# Altium footprint library HabLib.PcbLib: 72 footprints (part 3 of 5)
Each footprint in its own frame and in the unit in brackets; x right, y up, seen from the top. Pads: shape width x height; smd on the part's side, far side on the other; paste and mask are expansions set on the pad; w line width, h text height; cw(c..) or ccw(c..) is an arc to the next point about the centre after c.
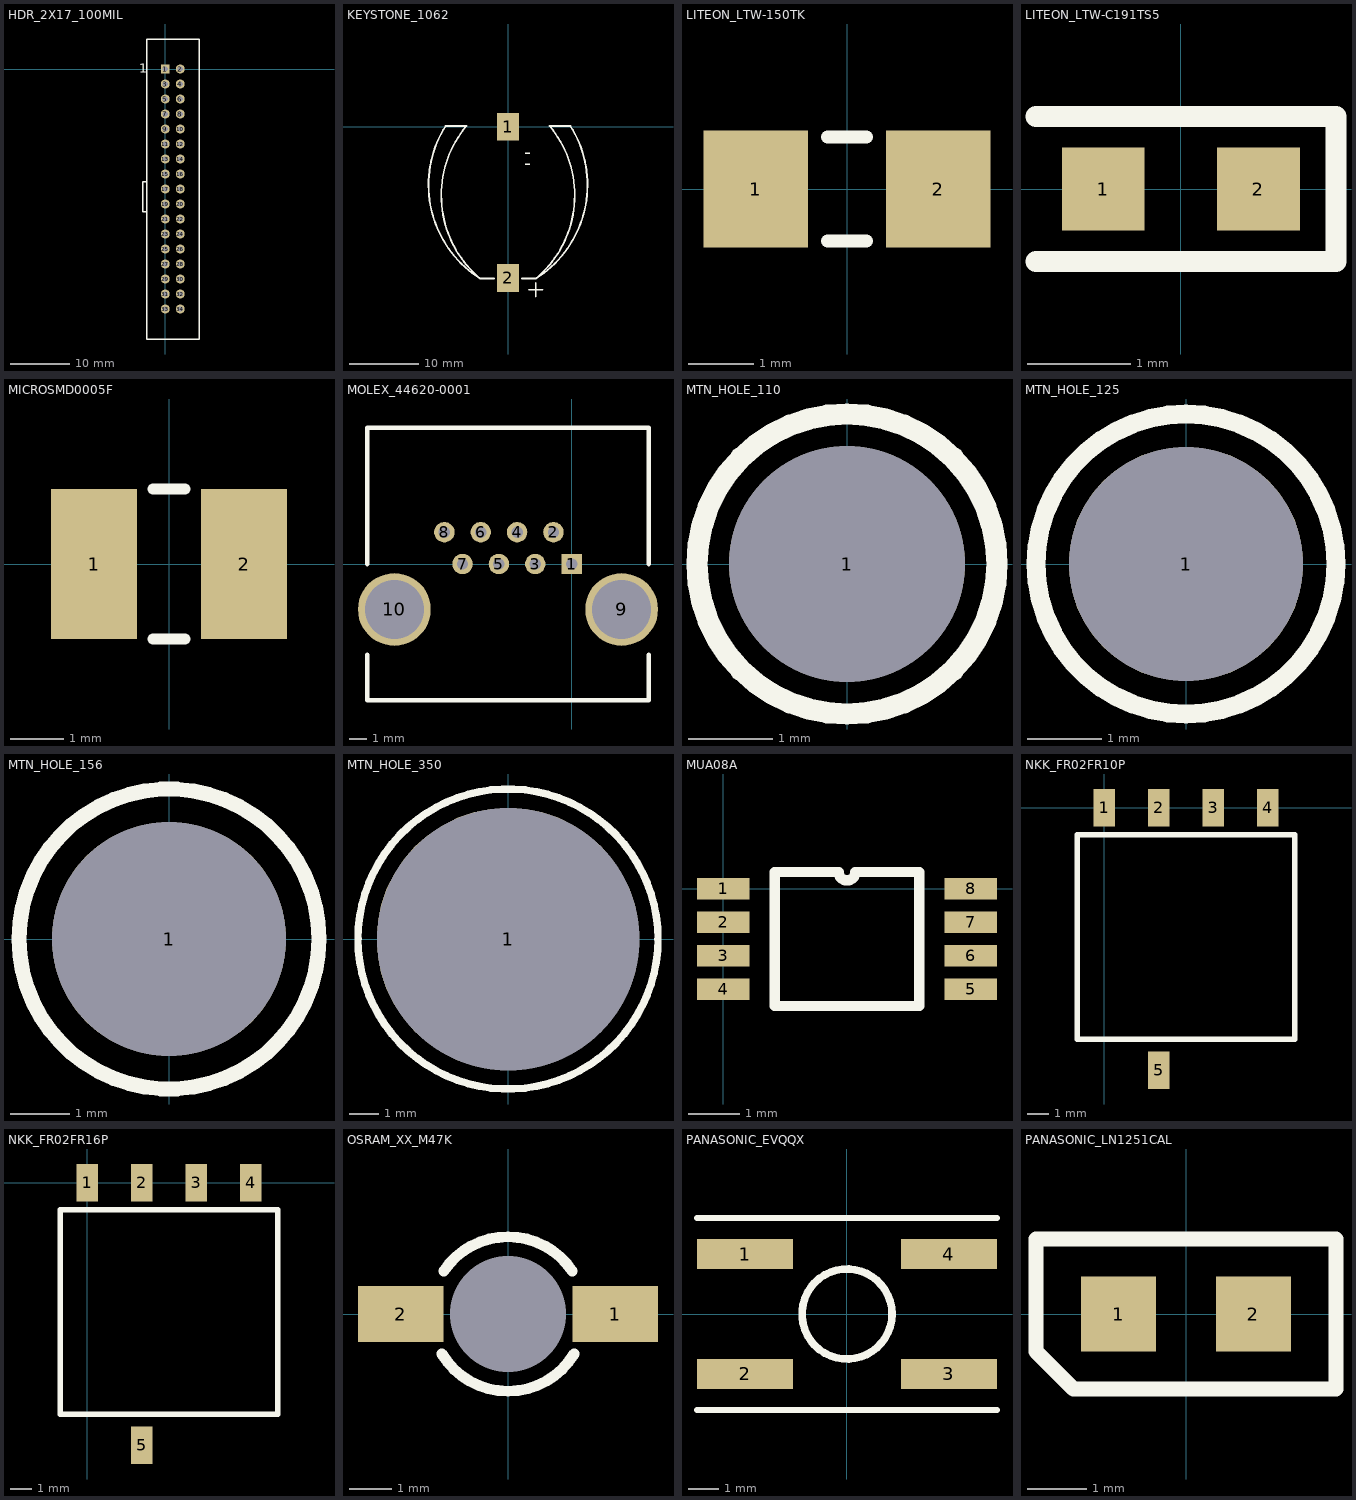
[diagram p2: the footprints below, top view; thin cyan lines are the x and y axes]

## HDR_2X17_100MIL [mil] "HEADER, 2X17, 100MIL SPACING, TH"
height 350
pads (34):
  rect 60x60 hole 35: 1(0,0)
  round 60 hole 35: 2(100,0) 3(0,-100) 4(100,-100) 5(0,-200) 6(100,-200) 7(0,-300) 8(100,-300) 9(0,-400) 10(100,-400) 11(0,-500) 12(100,-500) 13(0,-600) 14(100,-600) 15(0,-700) 16(100,-700) 17(0,-800) 18(100,-800) 19(0,-900) 20(100,-900) 21(0,-1000) 22(100,-1000) 23(0,-1100) 24(100,-1100) 25(0,-1200) 26(100,-1200) 27(0,-1300) 28(100,-1300) 29(0,-1400) 30(100,-1400) 31(0,-1500) 32(100,-1500) 33(0,-1600) 34(100,-1600)
Top Overlay:
  lines w10: -125,-950 -150,-950 -150,-750 -125,-750 ; -125,-1800 225,-1800 225,200 -125,200 -125,-1800
  text "1" at -175,-25 h60
3D body: height 1, standoff 0, extent -125,-1800 227.5,200
3D body: height 350, standoff 0, extent -125,-1800 225,200
3D body: height 325, standoff 0, extent -14.94,-14.97 14.94,14.97
3D body: height 325, standoff 0, extent -14.94,-114.97 14.94,-85.03
3D body: height 325, standoff 0, extent -14.94,-214.97 14.94,-185.03
3D body: height 325, standoff 0, extent -14.94,-414.97 14.94,-385.03
3D body: height 325, standoff 0, extent -14.94,-514.97 14.94,-485.03
3D body: height 325, standoff 0, extent -14.94,-614.97 14.94,-585.03
3D body: height 325, standoff 0, extent -14.94,-714.97 14.94,-685.03
3D body: height 325, standoff 0, extent -14.94,-814.97 14.94,-785.03
3D body: height 325, standoff 0, extent -14.94,-914.97 14.94,-885.03
3D body: height 325, standoff 0, extent 85.06,-914.97 114.94,-885.03
3D body: height 325, standoff 0, extent -14.94,-314.97 14.94,-285.03
3D body: height 325, standoff 0, extent 85.06,-14.97 114.94,14.97
3D body: height 325, standoff 0, extent 85.06,-114.97 114.94,-85.03
3D body: height 325, standoff 0, extent 85.06,-214.97 114.94,-185.03
3D body: height 325, standoff 0, extent 85.06,-314.97 114.94,-285.03
3D body: height 325, standoff 0, extent 85.06,-414.97 114.94,-385.03
3D body: height 325, standoff 0, extent 85.06,-514.97 114.94,-485.03
3D body: height 325, standoff 0, extent 85.06,-614.97 114.94,-585.03
3D body: height 325, standoff 0, extent 85.06,-714.97 114.94,-685.03
3D body: height 325, standoff 0, extent 85.06,-814.97 114.94,-785.03
3D body: height 325, standoff 0, extent -14.94,-1014.97 14.94,-985.03
3D body: height 325, standoff 0, extent -14.94,-1114.97 14.94,-1085.03
3D body: height 325, standoff 0, extent -14.94,-1214.97 14.94,-1185.03
3D body: height 325, standoff 0, extent -14.94,-1414.97 14.94,-1385.03
3D body: height 325, standoff 0, extent -14.94,-1514.97 14.94,-1485.03
3D body: height 325, standoff 0, extent -14.94,-1614.97 14.94,-1585.03
3D body: height 325, standoff 0, extent 85.06,-1614.97 114.94,-1585.03
3D body: height 325, standoff 0, extent 85.06,-1514.97 114.94,-1485.03
3D body: height 325, standoff 0, extent 85.06,-1414.97 114.94,-1385.03
3D body: height 325, standoff 0, extent 85.06,-1314.97 114.94,-1285.03
3D body: height 325, standoff 0, extent 85.06,-1214.97 114.94,-1185.03
3D body: height 325, standoff 0, extent 85.06,-1114.97 114.94,-1085.03
3D body: height 325, standoff 0, extent 85.06,-1014.97 114.94,-985.03
3D body: height 325, standoff 0, extent -14.94,-1314.97 14.94,-1285.03

## KEYSTONE_1062 [mm] "CONN, 20MM DOUBLE STACK BATTERY HOLDER"
height 2.54
pads (2):
  rect 3.2x4 smd: 1(0,0) 2(0,-21.8)
Top Overlay:
  lines w0.2: 2.5,-5.4 3.1,-5.4 ; 2.5,-3.8 3.1,-3.8
  lines w0.254: -2,-21.9 -4,-21.9 ; 2,-21.9 4,-21.9 ; 3,-23.5 5,-23.5 ; 4,-24.5 4,-22.5 ; -4,-21.9 cw(c4.5,-8.4) -9,0.1 -6,0.1 ccw(c6,-9.9) -4,-21.9 ; 4,-21.9 ccw(c-6,-9.9) 6,0.1 9,0.1 cw(c-4.5,-8.4) 4,-21.9
3D body: height 4.6, standoff 1.1, extent -9.921,-19.98 10,-0.02
3D body: height 9.5, standoff 1, extent -12,-22.5 12,0
3D body: height 1, standoff 0, extent -12,-22.5 12,0
3D body: height 8.5, standoff 5, extent -9.921,-19.98 10,-0.02
3D body: height 9.7, standoff 9.2, extent -2.5,-23 2.5,-7.5
3D body: height 9.5, standoff 0, extent -2.5,-23 2.5,-22.5

## LITEON_LTW-150TK [mm] "LED- WITH LENZ"
height 2.54
pads (2):
  rect 1.6x1.8 smd: 1(-1.4,0) 2(1.4,0)
Top Overlay:
  lines w0.2: -0.3,-0.8 0.3,-0.8 ; -0.3,0.8 0.3,0.8
3D body: height 0.51, standoff 0, extent -2.032,-0.762 2.032,0.762
3D body: height 0.56, standoff 0.51, extent -2.032,-0.762 -1.651,0.762
3D body: height 0.56, standoff 0.51, extent 1.651,-0.762 2.032,0.762
3D body: height 1.14, standoff 0.51, extent -1.651,-0.762 1.651,0.762

## LITEON_LTW-C191TS5 [mm] "LED- WITH LENZ"
pads (2):
  rect 0.8x0.8 smd: 1(-0.75,0) 2(0.75,0)
Top Overlay:
  lines w0.2: -1.4,-0.7 1.5,-0.7 1.5,0.7 -1.4,0.7
3D body: height 0.55, standoff 0.28, extent -0.6,-0.4 0.5,0.4
3D body: height 0.28, standoff 0, extent 0.5,-0.4 0.8,0.4
3D body: height 0.28, standoff 0, extent -0.9,-0.4 -0.6,0.4
3D body: height 0.28, standoff 0, extent -0.6,-0.4 0.5,0.4
3D body: height 0.29, standoff 0.28, extent 0.601,-0.3 0.7,-0.2

## MICROSMD0005F [mm] "Chip FUSE; Body 3.2 x 2.8 mm (LxW typ)"
height 2.54
pads (2):
  rect 1.6x2.8 smd: 1(-1.4,0) 2(1.4,0)
Top Overlay:
  lines w0.2: -0.3,-1.4 0.3,-1.4 ; -0.3,1.4 0.3,1.4
3D body: height 0.56, standoff 0, extent -1.7,-1.3 1.7,1.3
3D body: height 0.56, standoff 0, extent -2.032,-1.3 -1.7,1.3
3D body: height 0.56, standoff 0, extent 1.7,-1.3 2.032,1.3

## MOLEX_44620-0001 [mil] "RJ45 RT ANG TH"
pads (10):
  rect 45x45 hole 25: 1(0,0)
  round 45 hole 25: 2(-40,70) 3(-80,0) 4(-120,70) 5(-160,0) 6(-200,70) 7(-240,0) 8(-280,70)
  round 160 hole 130: 9(110,-100) 10(-390,-100)
Top Overlay:
  lines w10: -450,-200 -450,-300 170,-300 170,-200 ; -450,0 -450,300 170,300 170,0
3D body: height 100, standoff 0, extent -450,-300 170,300
3D body: height 420, standoff 100, extent -450,-300 170,300
3D body: height 520, standoff 420, extent -450,-300 170,300

## MTN_HOLE_110 [mil] "MTN HOLE NON PLATED 110MIL"
pads (1):
  round 110 hole 110 unplated: 1(0,0)
Top Overlay:
  circle w10: c0,0 r70

## MTN_HOLE_125 [mm] "MTN HOLE NON PLATED 125MIL"
pads (1):
  round 3.175 hole 3.175 unplated: 1(0,0)
Top Overlay:
  circle w0.254: c0,0 r2.032

## MTN_HOLE_156 [mil] "MTN HOLE NON PLATED 156MIL"
pads (1):
  round 156 hole 156 unplated: 1(0,0)
Top Overlay:
  circle w10: c0,0 r100

## MTN_HOLE_350 [mm] "MTN HOLE NON PLATED 350MIL"
pads (1):
  round 8.89 hole 8.89 unplated: 1(0,0)
Top Overlay:
  circle w0.254: c0,0 r5.08

## MUA08A [mm]
pads (8):
  rect 1.02x0.41 smd: 1(0,0) 2(0,-0.65) 3(0,-1.3) 4(0,-1.95) 5(4.8,-1.95) 6(4.8,-1.3) 7(4.8,-0.65) 8(4.8,0)
Top Overlay:
  lines w0.2: 1,-2.275 1,0.325 2.238,0.325 ccw(c2.4,0.325) 2.562,0.325 3.8,0.325 3.8,-2.275 1,-2.275
3D body: height 0.76, standoff 0, extent 0.9,-2.4 3.9,0.4

## NKK_FR02FR10P [mm] "SM ROTARTY 10POS BCD"
pads (5):
  rect 1x1.75 smd: 1(0,0) 2(2.54,0) 3(5.08,0) 4(7.62,0) 5(2.54,-12.25)
Top Overlay:
  lines w0.254: -1.27,-10.795 -1.27,-1.27 8.89,-1.27 8.89,-10.795 -1.27,-10.795
3D body: height 4.47, standoff 4.44, extent 1.92,-7.616 5.715,-3.814
3D body: height 4.44, standoff 0.25, extent -1.27,-10.795 8.89,-1.27

## NKK_FR02FR16P [mm] "SM ROTARTY 16POS HEX"
pads (5):
  rect 1x1.75 smd: 1(0,0) 2(2.54,0) 3(5.08,0) 4(7.62,0) 5(2.54,-12.25)
Top Overlay:
  lines w0.254: -1.27,-10.795 -1.27,-1.27 8.89,-1.27 8.89,-10.795 -1.27,-10.795
3D body: height 4.47, standoff 4.44, extent 1.92,-7.616 5.715,-3.814
3D body: height 4.44, standoff 0.25, extent -1.27,-10.795 8.89,-1.27

## OSRAM_XX_M47K [mm] "LED UNDERMOUNT SM 0805"
height 2.54
pads (3):
  round 0 hole 2.7 unplated: 0(0,0)
  rect 2x1.3 smd: 1(2.5,0) 2(-2.5,0)
Top Overlay:
  lines w0.254: -1.546,-0.928 ccw(c0,0) 1.546,-0.928 ; -1.5,1 cw(c0,0) 1.5,1
3D body: height 1, standoff 0.9, extent -0.9,-0.4 0.9,0.4
3D body: height 0.2, standoff -0.4, extent -0.7,-0.2 -0.4,0.2
3D body: height 0.1, standoff -0.5, extent -1.1,-0.6 1.1,0.6
3D body: height 0.2, standoff 0, extent -2.1,-0.4 -1.1,0.4
3D body: height 0.2, standoff 0, extent 1.1,-0.4 2.1,0.4
3D body: height 1, standoff 0, extent -1.1,-0.6 1.1,0.6
3D body: height 1.01, standoff 1, extent -1.1,0.4 -0.9,0.6

## PANASONIC_EVQQX [mm]
pads (4):
  rect 3.2x1 smd: 1(-3.4,2) 2(-3.4,-2) 3(3.4,-2) 4(3.4,2)
Top Overlay:
  circle w0.254: c0,0 r1.5
  lines w0.2: -5,-3.2 5,-3.2 ; -5,3.2 5,3.2
3D body: height 3.1, standoff 2, extent -1.488,-1.497 1.5,1.497
3D body: height 2, standoff 0, extent -3.4,-3.1 3.4,3.1

## PANASONIC_LN1251CAL [mil] "LED, MFG: PANASONIC, PN: LN1251CAL"
pads (2):
  rect 50x50 smd: 1(-45,0) 2(45,0)
Top Overlay:
  lines w10: -100,-25 -100,50 100,50 100,-50 -75,-50 -100,-25
3D body: height 55, standoff 50, extent -75,-25 75,25
3D body: height 50, standoff 0, extent -100,-50 100,50
3D body: height 5, standoff 0, extent -75,-25 75,25